# EAGLE library part DSPIC33FJ128MC204-I/ML (library Microchip_By_element14_Batch_1)
16-bit Digital Signal Controllers
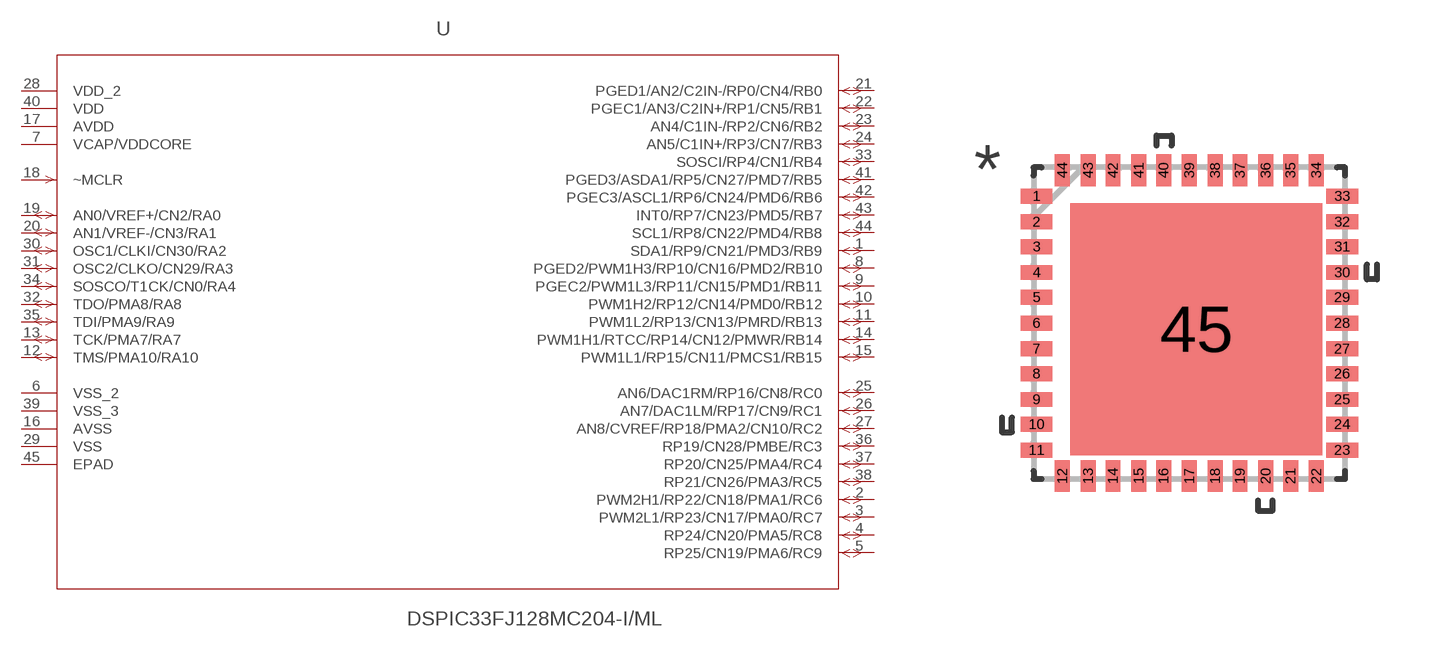
[diagram p355: symbol with the pads of QFN65P800X800X100-44N; footprint QFN65P800X800X100-44N]

Designator prefix -

## DSPIC33FJ128MC204-I/ML (MPN: DSPIC33FJ128Mc204-I/ML; OC_FARNELL: 1576805; OC_NEWARK: 39M8134; PACKAGE: QFN-44; SUPPLIER: Microchip)  [QFN65P800X800X100-44N]
1  SDA1/RP9/CN21/PMD3/RB9
2  PWM2H1/RP22/CN18/PMA1/RC6
3  PWM2L1/RP23/CN17/PMA0/RC7
4  RP24/CN20/PMA5/RC8
5  RP25/CN19/PMA6/RC9
6  VSS_2  pwr
7  VCAP/VDDCORE  pwr
8  PGED2/PWM1H3/RP10/CN16/PMD2/RB10
9  PGEC2/PWM1L3/RP11/CN15/PMD1/RB11
10  PWM1H2/RP12/CN14/PMD0/RB12
11  PWM1L2/RP13/CN13/PMRD/RB13
12  TMS/PMA10/RA10
13  TCK/PMA7/RA7
14  PWM1H1/RTCC/RP14/CN12/PMWR/RB14
15  PWM1L1/RP15/CN11/PMCS1/RB15
16  AVSS  pwr
17  AVDD  pwr
18  ~MCLR  in
19  AN0/VREF+/CN2/RA0
20  AN1/VREF-/CN3/RA1
21  PGED1/AN2/C2IN-/RP0/CN4/RB0
22  PGEC1/AN3/C2IN+/RP1/CN5/RB1
23  AN4/C1IN-/RP2/CN6/RB2
24  AN5/C1IN+/RP3/CN7/RB3
25  AN6/DAC1RM/RP16/CN8/RC0
26  AN7/DAC1LM/RP17/CN9/RC1
27  AN8/CVREF/RP18/PMA2/CN10/RC2
28  VDD_2  pwr
29  VSS  pwr
30  OSC1/CLKI/CN30/RA2
31  OSC2/CLKO/CN29/RA3
32  TDO/PMA8/RA8
33  SOSCI/RP4/CN1/RB4
34  SOSCO/T1CK/CN0/RA4
35  TDI/PMA9/RA9
36  RP19/CN28/PMBE/RC3
37  RP20/CN25/PMA4/RC4
38  RP21/CN26/PMA3/RC5
39  VSS_3  pwr
40  VDD  pwr
41  PGED3/ASDA1/RP5/CN27/PMD7/RB5
42  PGEC3/ASCL1/RP6/CN24/PMD6/RB6
43  INT0/RP7/CN23/PMD5/RB7
44  SCL1/RP8/CN22/PMD4/RB8
45  EPAD  pas

## Footprint QFN65P800X800X100-44N (pad centres in mm)
smd 0.813 x 0.381: 1 -3.912,3.251; 2 -3.912,2.591; 3 -3.912,1.956; 4 -3.912,1.295; 5 -3.912,0.66; 6 -3.912,0; 7 -3.912,-0.66; 8 -3.912,-1.295; 9 -3.912,-1.956; 10 -3.912,-2.591; 11 -3.912,-3.251; 23 3.912,-3.251; 24 3.912,-2.591; 25 3.912,-1.956; 26 3.912,-1.295; 27 3.912,-0.66; 28 3.912,0; 29 3.912,0.66; 30 3.912,1.295; 31 3.912,1.956; 32 3.912,2.591; 33 3.912,3.251
smd 0.381 x 0.813: 12 -3.251,-3.912; 13 -2.591,-3.912; 14 -1.956,-3.912; 15 -1.295,-3.912; 16 -0.66,-3.912; 17 0,-3.912; 18 0.66,-3.912; 19 1.295,-3.912; 20 1.956,-3.912; 21 2.591,-3.912; 22 3.251,-3.912; 34 3.251,3.912; 35 2.591,3.912; 36 1.956,3.912; 37 1.295,3.912; 38 0.66,3.912; 39 0,3.912; 40 -0.66,3.912; 41 -1.295,3.912; 42 -1.956,3.912; 43 -2.591,3.912; 44 -3.251,3.912
smd 6.452 x 6.452: 45 0.178,-0.152